# Altium footprint library Mobo.PcbLib: 35 footprints (part 3 of 3)
Each footprint in its own frame and in the unit in brackets; x right, y up, seen from the top. Pads: shape width x height; smd on the part's side, far side on the other; paste and mask are expansions set on the pad; w line width, h text height; cw(c..) or ccw(c..) is an arc to the next point about the centre after c.
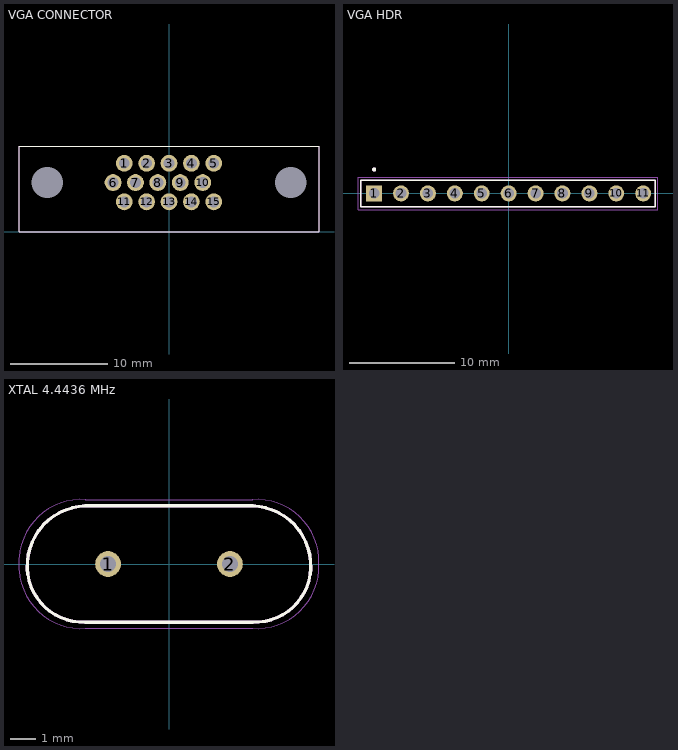
[diagram p2: the footprints below, top view; thin cyan lines are the x and y axes]

## VGA CONNECTOR [mm]
pads (17):
  round 1.724 hole 1.11: 1(-4.6,7.04) 2(-2.3,7.04) 3(0,7.04) 4(2.3,7.04) 5(4.6,7.04) 6(-5.743,5.06) 7(-3.443,5.06) 8(-1.143,5.06) 9(1.157,5.06) 10(3.457,5.06) 11(-4.6,3.08) 12(-2.3,3.08) 13(0,3.08) 14(2.3,3.08) 15(4.6,3.08)
  round 0 hole 3.2: 17(-12.5,5.06) 17(12.5,5.06)
Top Overlay:
  lines w0.127: -15.4,0 -15.4,8.8 ; -15.367,0 15.367,0 ; -15.367,8.8 15.367,8.8 ; 15.4,0 15.4,8.8
Mechanical 13:
  lines w0.127: -15.4,0 -15.4,8.8 15.4,8.8 15.4,0 -15.4,0
3D body "L77HDE15SD1CH4FVGA--3DModel-STEP-533217.STEP": height 12.77, standoff -3.57, extent -15.659,1.602 15.151,22.402

## VGA HDR [mm] "1x11 pin header"
pads (11):
  rect 1.508x1.508 hole 1: 1(-12.7,0)
  round 1.508 hole 1: 2(-10.16,0) 3(-7.62,0) 4(-5.08,0) 5(-2.54,0) 6(0,0) 7(2.54,0) 8(5.08,0) 9(7.62,0) 10(10.16,0) 11(12.7,0)
Top Overlay:
  circle w0.2: c-12.7,2.25 r0.1
  lines w0.127: -13.97,-1.27 13.843,-1.27 13.843,1.25 -13.97,1.25 -13.97,-1.27
Mechanical 13:
  circle w0.2: c-12.7,2.25 r0.1
  lines w0.127: -13.97,-1.27 13.843,-1.27 13.843,1.25 -13.97,1.25 -13.97,-1.27
Mechanical 15:
  lines w0.05: -14.22,-1.524 14.097,-1.524 14.097,1.5 -14.22,1.5 -14.22,-1.524

## XTAL 4.4436 MHz [mm] "XTAL 4.4436 MHz"
pads (2):
  round 1.03 hole 0.63: 1(-2.44,0) 2(2.44,0)
Top Overlay:
  lines w0.127: -5.675,-0.169 cw(c-3.26,-0.085) -3.344,2.33 ; -5.675,-0.168 ccw(c-3.435,-0.09) -3.357,-2.33 ; -3.35,-2.33 3.35,-2.33 ; -3.35,2.33 3.35,2.33 ; 3.344,2.33 cw(c3.26,-0.085) 5.675,-0.169 ; 3.357,-2.33 ccw(c3.435,-0.09) 5.675,-0.168
Mechanical 13:
  lines w0.127: -5.675,-0.169 cw(c-3.26,-0.085) -3.344,2.33 ; -5.675,-0.168 ccw(c-3.435,-0.09) -3.357,-2.33 ; -3.35,-2.33 3.35,-2.33 ; -3.35,2.33 3.35,2.33 ; 3.344,2.33 cw(c3.26,-0.085) 5.675,-0.169 ; 3.357,-2.33 ccw(c3.435,-0.09) 5.675,-0.168
Mechanical 15:
  lines w0.05: -5.999,-0.264 ccw(c-3.51,-0.09) -3.336,-2.579 ; -6,-0.25 -6,0.25 ; -5.999,0.264 cw(c-3.51,0.09) -3.336,2.579 ; -3.35,-2.58 3.35,-2.58 ; -3.35,2.58 3.35,2.58 ; 3.336,-2.579 ccw(c3.51,-0.09) 5.999,-0.264 ; 3.336,2.579 cw(c3.51,0.09) 5.999,0.264 ; 6,-0.25 6,0.25
3D body "step_temp.STEP": height 13.46, standoff -12.7, extent -5.471,-2.5 5.879,2.5